# EAGLE library part DIPS082 (library zkseagle)
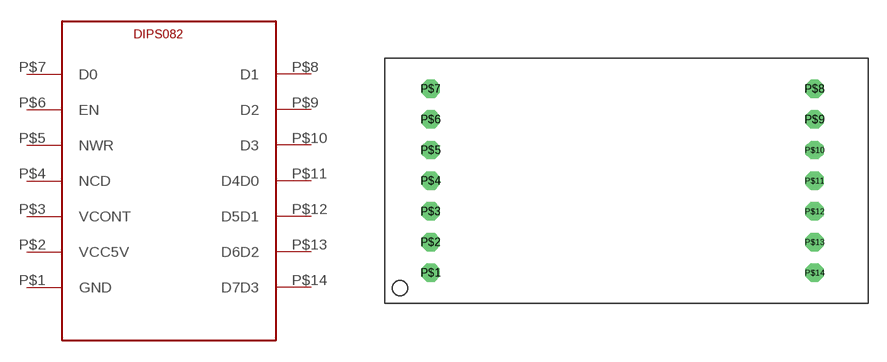
[diagram p8: symbol with the pads of DIPS082_P; footprint DIPS082_P]

Designator prefix -

## DIPS082  [DIPS082_P]
P$1  GND  pwr
P$2  VCC5V  pwr
P$3  VCONT  in
P$4  NCD
P$5  NWR
P$6  EN
P$7  D0
P$8  D1
P$9  D2
P$10  D3
P$11  D4D0
P$12  D5D1
P$13  D6D2
P$14  D7D3

## Footprint DIPS082_P (pad centres in mm)
drill 1 pad 1.524 octagon: P$1 0,0; P$2 0,2.54; P$3 0,5.08; P$4 0,7.62; P$5 0,10.16; P$6 0,12.7; P$7 0,15.24; P$8 31.75,15.24; P$9 31.75,12.7; P$10 31.75,10.16; P$11 31.75,7.62; P$12 31.75,5.08; P$13 31.75,2.54; P$14 31.75,0